# EAGLE library part A4985 (library alvie)
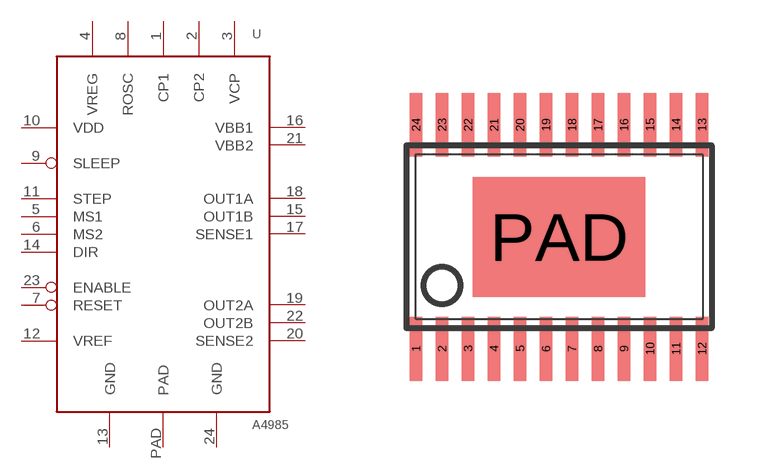
[diagram p54: symbol with the pads of TSSOP24-THERMALPAD; footprint TSSOP24-THERMALPAD]

Designator prefix -

## A4985LP  [TSSOP24-THERMALPAD]
1  CP1  pas
2  CP2  pas
3  VCP  pas
4  VREG  pas
5  MS1  in
6  MS2  in
7  RESET  in
8  ROSC  pas
9  SLEEP  in
10  VDD  pwr
11  STEP  in
12  VREF  pas
13  GND  pwr
14  DIR  in
15  OUT1B  pas
16  VBB1  pwr
17  SENSE1  pas
18  OUT1A  pas
19  OUT2A  pas
20  SENSE2  pas
21  VBB2  pwr
22  OUT2B  pas
23  ENABLE  in
24  GND  pwr
PAD  PAD  pas

## Footprint TSSOP24-THERMALPAD (pad centres in mm)
smd 0.305 x 1.6: 1 -3.575,-2.8; 2 -2.925,-2.8; 3 -2.275,-2.8; 4 -1.625,-2.8; 5 -0.975,-2.8; 6 -0.325,-2.8; 7 0.325,-2.8; 8 0.975,-2.8; 9 1.625,-2.8; 10 2.275,-2.8; 11 2.925,-2.8; 12 3.575,-2.8; 13 3.575,2.8; 14 2.925,2.8; 15 2.275,2.8; 16 1.625,2.8; 17 0.975,2.8; 18 0.325,2.8; 19 -0.325,2.8; 20 -0.975,2.8; 21 -1.625,2.8; 22 -2.275,2.8; 23 -2.925,2.8; 24 -3.575,2.8
smd 4.32 x 3: PAD 0,0